# Altium footprint library STeRG-Passives-Standard.PcbLib: 54 footprints (part 4 of 4)
Each footprint in its own frame and in the unit in brackets; x right, y up, seen from the top. Pads: shape width x height; smd on the part's side, far side on the other; paste and mask are expansions set on the pad; w line width, h text height; cw(c..) or ccw(c..) is an arc to the next point about the centre after c.
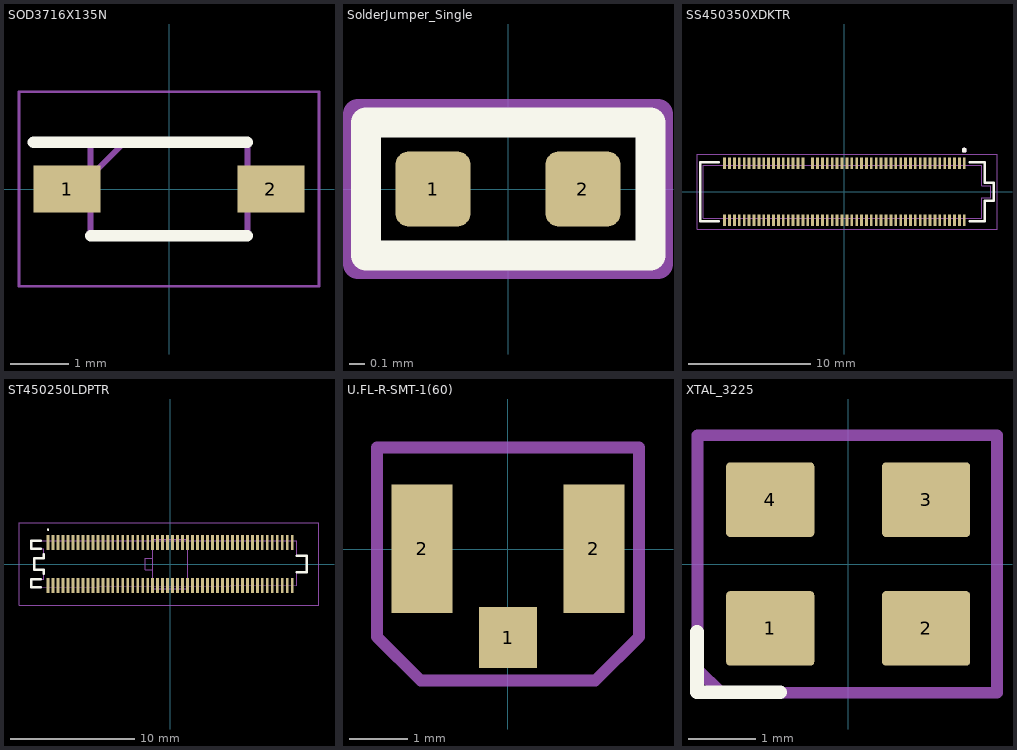
[diagram p3: the footprints below, top view; thin cyan lines are the x and y axes]

## SOD3716X135N [mm]
pads (2):
  rect 1.15x0.8 smd: 1(-1.75,0) 2(1.75,0)
Top Overlay:
  lines w0.2: -2.325,0.8 1.345,0.8 ; -1.345,-0.8 1.345,-0.8
Mechanical 13:
  lines w0.1: -1.345,0.225 -0.77,0.8 ; -1.345,-0.8 -1.345,0.8 1.345,0.8 1.345,-0.8 -1.345,-0.8
Mechanical 15:
  lines w0.05: -2.575,-1.67 -2.575,1.67 2.575,1.67 2.575,-1.67 -2.575,-1.67
3D body "NRVB0540T1G.stp": height 1.35, standoff 0, extent -1.855,-0.8 1.855,0.8

## SolderJumper_Single [mm]
pads (2):
  rrect35% 0.5x0.5 smd mask+0: 1(-0.5,0) 2(0.5,0)
Top Overlay:
  lines w0.2: -0.948,-0.444 -0.948,0.048 -0.948,0.444 0.95,0.444 0.95,-0.444 -0.948,-0.444
Top Solder:
  region: -0.5,0.25 0.5,0.25 0.5,-0.25 -0.5,-0.25
Mechanical 13:
  lines w0.2: -1,-0.5 1,-0.5 1,0.5 -1,0.5 -1,-0.5
  text "'.Designator'" at -5.84,-0.925 h1

## SS450350XDKTR [mm]
pads (100):
  rect 0.23x0.93 smd paste-1: 01(9.8,2.335) 02(9.8,-2.335) 03(9.4,2.335) 04(9.4,-2.335) 05(9,2.335) 06(9,-2.335) 07(8.6,2.335) 08(8.6,-2.335) 09(8.2,2.335) 10(8.2,-2.335) 11(7.8,2.335) 12(7.8,-2.335) 13(7.4,2.335) 14(7.4,-2.335) 15(7,2.335) 16(7,-2.335) 17(6.6,2.335) 18(6.6,-2.335) 19(6.2,2.335) 20(6.2,-2.335) 21(5.8,2.335) 22(5.8,-2.335) 23(5.4,2.335) 24(5.4,-2.335) 25(5,2.335) 26(5,-2.335) 27(4.6,2.335) 28(4.6,-2.335) 29(4.2,2.335) 30(4.2,-2.335) 31(3.8,2.335) 32(3.8,-2.335) 33(3.4,2.335) 34(3.4,-2.335) 35(3,2.335) 36(3,-2.335) 37(2.6,2.335) 38(2.6,-2.335) 39(2.2,2.335) 40(2.2,-2.335) 41(1.8,2.335) 42(1.8,-2.335) 43(1.4,2.335) 44(1.4,-2.335) 45(1,2.335) 46(1,-2.335) 47(0.6,2.335) 48(0.6,-2.335) 49(0.2,2.335) 50(0.2,-2.335) 51(-0.2,2.335) 52(-0.2,-2.335) 53(-0.6,2.335) 54(-0.6,-2.335) 55(-1,2.335) 56(-1,-2.335) 57(-1.4,2.335) 58(-1.4,-2.335) 59(-1.8,2.335) 60(-1.8,-2.335) 61(-2.2,2.335) 62(-2.2,-2.335) 63(-2.6,2.335) 64(-2.6,-2.335) 65(-1.8,2.335) 66(-3,-2.335) 67(-3.4,2.335) 68(-3.4,-2.335) 69(-3.8,2.335) 70(-3.8,-2.335) 71(-4.2,2.335) 72(-4.2,-2.335) 73(-4.6,2.335) 74(-4.6,-2.335) 75(-5,2.335) 76(-5,-2.335) 77(-5.4,2.335) 78(-5.4,-2.335) 79(-5.8,2.335) 80(-5.8,-2.335) 81(-6.2,2.335) 82(-6.2,-2.335) 83(-6.6,2.335) 84(-6.6,-2.335) 85(-7,2.335) 86(-7,-2.335) 87(-7.4,2.335) 88(-7.4,-2.335) 89(-7.8,2.335) 90(-7.8,-2.335) 91(-8.2,2.335) 92(-8.2,-2.335) 93(-8.6,2.335) 94(-8.6,-2.335) 95(-9,2.335) 96(-9,-2.335) 97(-9.4,2.335) 98(-9.4,-2.335) 99(-9.8,2.335) 100(-9.8,-2.335)
Top Overlay:
  circle w0.2: c9.8,3.4 r0.1
  lines w0.2: -10.265,-2.425 -11.81,-2.425 -11.81,2.425 -10.265,2.425 ; 10.265,-2.425 11.48,-2.425 11.48,-0.75 12.23,-0.75 12.23,0.75 11.48,0.75 11.48,2.425 10.265,2.425
Top Paste:
  drawing of 100 lines, arcs and shapes, not listed
Mechanical 13:
  circle w0.2: c9.8,3.4 r0.1
  lines w0.1: -11.56,-2.175 -11.56,2.175 11.23,2.175 11.23,0.5 11.98,0.5 11.98,-0.5 11.23,-0.5 11.23,-2.175 -11.56,-2.175
Mechanical 15:
  lines w0.05: -12.06,-3.05 -12.06,3.05 12.48,3.05 12.48,-3.05 -12.06,-3.05
3D body "SS4-50-3.step": height 3.98, standoff -0.02, extent -11.602,-2.5 11.938,2.5

## ST450250LDPTR [mm]
pads (100):
  rect 0.23x1.2 smd: 1(-9.8,1.71) 2(-9.8,-1.71) 3(-9.4,1.71) 4(-9.4,-1.71) 5(-9,1.71) 6(-9,-1.71) 7(-8.6,1.71) 8(-8.6,-1.71) 9(-8.2,1.71) 10(-8.2,-1.71) 11(-7.8,1.71) 12(-7.8,-1.71) 13(-7.4,1.71) 14(-7.4,-1.71) 15(-7,1.71) 16(-7,-1.71) 17(-6.6,1.71) 18(-6.6,-1.71) 19(-6.2,1.71) 20(-6.2,-1.71) 21(-5.8,1.71) 22(-5.8,-1.71) 23(-5.4,1.71) 24(-5.4,-1.71) 25(-5,1.71) 26(-5,-1.71) 27(-4.6,1.71) 28(-4.6,-1.71) 29(-4.2,1.71) 30(-4.2,-1.71) 31(-3.8,1.71) 32(-3.8,-1.71) 33(-3.4,1.71) 34(-3.4,-1.71) 35(-3,1.71) 36(-3,-1.71) 37(-2.6,1.71) 38(-2.6,-1.71) 39(-2.2,1.71) 40(-2.2,-1.71) 41(-1.8,1.71) 42(-1.8,-1.71) 43(-1.4,1.71) 44(-1.4,-1.71) 45(-1,1.71) 46(-1,-1.71) 47(-0.6,1.71) 48(-0.6,-1.71) 49(-0.2,1.71) 50(-0.2,-1.71) 51(0.2,1.71) 52(0.2,-1.71) 53(0.6,1.71) 54(0.6,-1.71) 55(1,1.71) 56(1,-1.71) 57(1.4,1.71) 58(1.4,-1.71) 59(1.8,1.71) 60(1.8,-1.71) 61(2.2,1.71) 62(2.2,-1.71) 63(2.6,1.71) 64(2.6,-1.71) 65(3,1.71) 66(3,-1.71) 67(3.4,1.71) 68(3.4,-1.71) 69(3.8,1.71) 70(3.8,-1.71) 71(4.2,1.71) 72(4.2,-1.71) 73(4.6,1.71) 74(4.6,-1.71) 75(5,1.71) 76(5,-1.71) 77(5.4,1.71) 78(5.4,-1.71) 79(5.8,1.71) 80(5.8,-1.71) 81(6.2,1.71) 82(6.2,-1.71) 83(6.6,1.71) 84(6.6,-1.71) 85(7,1.71) 86(7,-1.71) 87(7.4,1.71) 88(7.4,-1.71) 89(7.8,1.71) 90(7.8,-1.71) 91(8.2,1.71) 92(8.2,-1.71) 93(8.6,1.71) 94(8.6,-1.71) 95(9,1.71) 96(9,-1.71) 97(9.4,1.71) 98(9.4,-1.71) 99(9.8,1.71) 100(9.8,-1.71)
Top Overlay:
  lines w0.1: -9.8,2.7 ccw(c-9.8,2.75) -9.8,2.8 ccw(c-9.8,2.75) -9.8,2.7
  lines w0.2: -10.4,-1.85 -11.13,-1.85 -11.13,-1.22 -10.4,-1.22 ; -10.4,1.22 -11.13,1.22 -11.13,1.85 -10.4,1.85 ; -10.16,-0.8 -10.16,-0.47 -10.924,-0.47 -10.924,0.47 -10.16,0.47 -10.16,0.8 ; 10.16,-0.68 10.95,-0.68 10.95,0.68 10.16,0.68
Mechanical 13:
  lines w0.1: -1.4,-0.47 -2,-0.47 -2,0.47 -1.4,0.47 ; -11.13,-1.85 -11.13,-1.22 -10.16,-1.22 -10.16,-0.47 -10.924,-0.47 -10.924,0.47 -10.16,0.47 -10.16,1.22 -11.13,1.22 -11.13,1.85 0,1.85 10.16,1.85 10.16,0.68 10.95,0.68 10.95,-0.68 10.16,-0.68 10.16,-1.71 -11.13,-1.85 ; -1.4,-2 -1.4,2 1.4,2 1.4,-2 -1.4,-2
Mechanical 15:
  lines w0.1: -12.13,-3.31 -12.13,3.31 11.95,3.31 11.95,-3.31 -12.13,-3.31
3D body "ST4-50-2.step": height 4.56, standoff -0.02, extent -10.875,-2 10.725,2

## U.FL-R-SMT-1(60) [mm]
pads (3):
  rect 1x1.05 smd mask+0.07: 1(0,-1.512)
  rect 1.05x2.2 smd mask+0.07: 2(-1.475,0.013) 2(1.475,0.013)
Mechanical 13:
  lines w0.2: -2.25,-1.5 -2.25,0 -2.25,1.75 2.25,1.75 2.25,-1.5 1.5,-2.25 -1.5,-2.25 -2.25,-1.5
  text "'.Designator'" at -5.84,-0.925 h1
3D body "U.FL-R-SMT-1.stp": height 1.26, standoff 0.01, extent -1.5,-1.55 1.5,1.55

## XTAL_3225 [mm]
pads (4):
  rrect10% 1.3x1.1 smd: 1(-1.15,-0.95) 2(1.15,-0.95) 3(1.15,0.95) 4(-1.15,0.95)
Top Overlay:
  lines w0.2: -2.231,-1 -2.231,-1.893 -1,-1.893
Mechanical 13:
  circle w0.254: c-1.15,-0.95 r0.112
  lines w0.175: -0.478,1.903 2.197,1.903 2.197,-1.9 -1.875,-1.9 -2.225,-1.55 -2.225,1.903 0.472,1.903
  text "'.Designator'" at -5.665,-0.417 h1
3D body "Y3225.step": height 0.61, standoff 0, extent -1.6,-1.275 1.6,1.225